# Altium footprint library uMote.PcbLib: 22 footprints (part 1 of 2)
Each footprint in its own frame and in the unit in brackets; x right, y up, seen from the top. Pads: shape width x height; smd on the part's side, far side on the other; paste and mask are expansions set on the pad; w line width, h text height; cw(c..) or ccw(c..) is an arc to the next point about the centre after c.
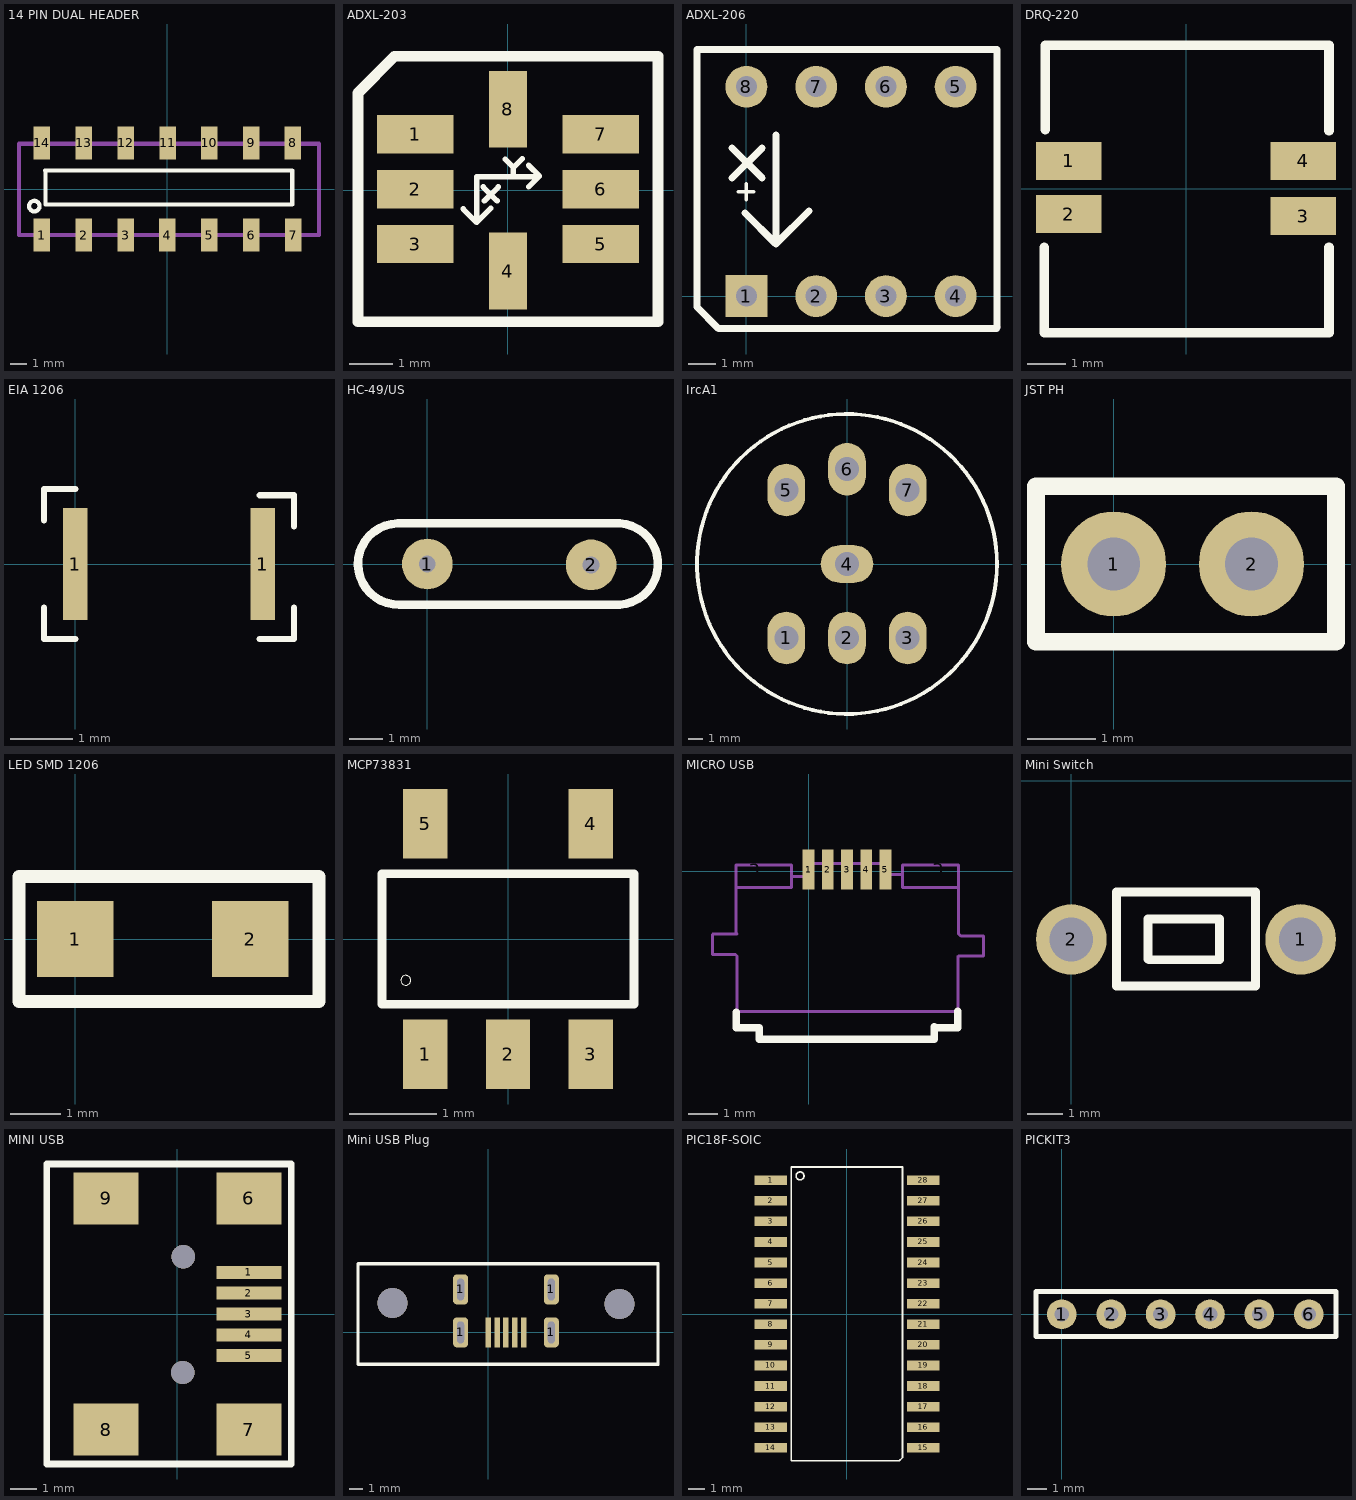
[diagram p0: the footprints below, top view; thin cyan lines are the x and y axes]

## 14 PIN DUAL HEADER [mm]
pads (14):
  rect 1x2 smd: 1(-7.62,-2.788) 2(-5.08,-2.788) 3(-2.54,-2.788) 4(0,-2.788) 5(2.54,-2.788) 6(5.08,-2.788) 7(7.62,-2.788) 8(7.595,2.788) 9(5.08,2.788) 10(2.545,2.788) 11(0.005,2.788) 12(-2.535,2.788) 13(-5.075,2.788) 14(-7.615,2.788)
Top Overlay:
  circle w0.254: c-8.065,-1.038 r0.32
  lines w0.254: -7.42,1.112 7.555,1.112 7.555,-0.938 -7.395,-0.938 -7.395,1.112
Mechanical 1:
  lines w0.254: -8.995,-2.788 9.18,-2.788 9.18,2.737 -8.995,2.737 -8.995,-2.788
3D body: height 2, standoff 1, extent -8.995,-2.788 9.03,2.737

## ADXL-203 [mil]
pads (8):
  rect 70x35 smd: 1(-84.65,50.79) 2(-84.65,0.79) 3(-84.65,-49.21) 5(84.65,-49.21) 6(84.65,0.79) 7(84.65,50.79)
  rect 35x70 smd: 4(0,-73.82) 8(0,73.82)
Top Overlay:
  lines w5: -40.85,-17.22 -28.54,-29.53 ; -22.64,2.95 -9.84,-9.84 ; -21.65,-9.84 -8.86,2.95 ; -15.75,-16.73 -28.54,-29.53 ; -2.46,28.05 4.92,20.67 ; 4.92,13.78 4.92,20.67 ; 12.8,28.54 4.92,20.67 ; 18.7,2.95 28.54,12.8 18.7,22.64 ; 28.05,12.3 -28.54,12.3 -28.54,-29.53
  lines w10: -136.81,-120.08 136.81,-120.08 136.81,122.05 -103.35,122.05 -136.81,88.58 -136.81,-120.08

## ADXL-206 [mil]
pads (8):
  rect 60x60 hole 30: 1(0,0)
  round 60 hole 30: 2(100,0) 3(200,0) 4(300,0) 5(300,300.2) 6(200,300.2) 7(100,300.2) 8(0,300.2)
Top Overlay:
  lines w5: -11.81,149.61 10.83,149.61 ; 0,137.8 0,161.42
  lines w10: -20.67,169.29 22.64,212.6 ; -20.67,212.6 22.64,169.29 ; -1.97,119.09 41.34,75.79 ; 42.32,74.8 42.32,231.3 ; 43.31,75.79 89.57,122.05 ; 358.27,-46.26 -40.35,-46.26 -70.87,-15.75 -70.87,353.35 359.25,353.35 359.25,-45.28
Mechanical 1:
  lines w10: 358.27,-46.26 359.25,-45.28

## DRQ-220 [mm]
pads (4):
  rect 1.73x1 smd: 1(-3.085,0.725) 2(-3.085,-0.675) 3(3.085,-0.725) 4(3.085,0.725)
Top Overlay:
  lines w0.254: -3.735,-1.55 -3.735,-3.8 3.765,-3.8 3.765,-1.55 ; -3.71,1.55 -3.71,3.775 3.765,3.775 3.765,1.525
3D body: height 1, standoff 0, extent -3.51,-3.65 3.54,3.575
3D body: height 4.45, standoff 1, extent -2.878,-2.93 2.908,2.855

## EIA 1206 [mm]
pads (2):
  rect 0.4x1.8 smd: 1(0,0) 1(3,0)
Top Overlay:
  lines w0.1: -0.5,-0.7 -0.5,-1.2 0,-1.2 ; -0.5,0.7 -0.5,1.2 0,1.2 ; 2.95,-1.2 3.5,-1.2 3.5,-0.7 ; 2.95,1.1 3.5,1.1 3.5,0.6

## HC-49/US [mm]
pads (2):
  round 1.5 hole 0.5: 1(0,0) 2(4.85,-0.025)
Top Overlay:
  lines w0.254: -0.875,1.2 ccw(c-0.85,0) -0.825,-1.2 5.7,-1.2 ccw(c5.625,0) 5.7,1.2 -0.875,1.2

## IrcA1 [mil]
pads (7):
  oval 99.37x138.74 hole 62.99: 1(-160,-195) 2(0,-195) 3(160,-195) 5(-160,195) 6(0,250) 7(160,195)
  oval 138.74x99.37 hole 62.99: 4(0,0)
Top Overlay:
  circle w10: c0,0 r395.51

## JST PH [mil]
pads (2):
  round 60 hole 30: 1(0,0) 2(78.74,0)
Top Overlay:
  lines w10: 126.97,44.29 126.97,-44.29 -44.29,-44.29 -44.29,44.29 126.97,44.29 ; 126.97,44.29 126.97,44.29

## LED SMD 1206 [mil]
pads (2):
  rect 60x60 smd: 1(0,0) 2(137.8,0)
Top Overlay:
  lines w10: -44.29,-49.21 -44.29,49.21 191.93,49.21 191.93,-49.21 -44.29,-49.21

## MCP73831 [mm]
pads (5):
  rect 0.51x0.8 smd: 1(-0.95,-1.325) 2(0,-1.325) 3(0.95,-1.325) 4(0.95,1.325) 5(-0.95,1.325)
Top Overlay:
  circle w0.01: c-1.175,-0.475 r0.056
  lines w0.1: -1.45,-0.75 1.45,-0.75 1.45,0.75 -1.45,0.75 -1.45,-0.75

## MICRO USB [mm]
pads (11):
  rect 0.4x1.35 smd: 1(0,0.048) 2(0.65,0.048) 3(1.3,0.048) 4(1.95,0.048) 5(2.6,0.048)
  rect 2.1x1.6 on Top Paste: 3(-1.8,0.025) 3(4.4,0.05)
  rect 1.8x1.9 on Top Paste: ""(-2.825,-2.35) ""(0.15,-2.35) ""(2.45,-2.35) ""(5.425,-2.4)
Top Overlay:
  lines w0.254: -2.45,-4.775 -2.45,-5.3 -1.675,-5.3 -1.675,-5.7 4.25,-5.7 4.25,-5.275 4.275,-5.3 5.05,-5.3 5.05,-4.75
Mechanical 1:
  lines w0.1: -2.45,-0.55 -0.575,-0.55 -0.575,0.2 -2.45,0.2 -2.45,-2.1 -2.425,-2.125 -3.225,-2.125 -3.25,-2.15 -3.25,-2.825 -2.475,-2.825 -2.425,-2.875 -2.425,-4.75 5.05,-4.75 5.05,-2.9 5.075,-2.875 5.925,-2.875 5.925,-2.2 5.15,-2.2 5.075,-2.125 5.075,-0.55 ; -0.55,-0.188 -0.038,-0.188 -0.025,-0.175 -0.025,0.25 2.6,0.25 2.6,-0.125 3.175,-0.125 ; 3.175,-0.125 3.175,0.2 5.075,0.2 5.075,-0.55 ; 3.175,-0.125 3.175,-0.55 5.075,-0.55
3D body: height 1, standoff 0, extent -3.25,-5.7 5.925,0.2

## Mini Switch [mm]
pads (2):
  round 2 hole 1.24: 1(6.5,-4.5) 2(0,-4.5)
Top Overlay:
  lines w0.254: 1.275,-5.825 1.275,-3.15 5.225,-3.15 5.225,-5.825 1.275,-5.825 ; 2.175,-5.05 2.2,-5.075 4.2,-5.075 4.2,-3.925 2.175,-3.925 2.175,-5.05
3D body: height 2, standoff 1, extent 1.275,-5.8 5.225,-3.175
3D body: height 2, standoff 1, extent 2.2,-5.025 4.2,-3.925

## MINI USB [mm]
pads (9):
  rect 2.5x0.5 smd: 1(2.75,1.6) 2(2.75,0.8) 3(2.75,0) 4(2.75,-0.8) 5(2.75,-1.6)
  rect 2.5x2 smd: 6(2.75,4.45) 7(2.75,-4.45) 8(-2.75,-4.45) 9(-2.75,4.45)
via 0.225,2.2 diameter 0.9 hole 0.9
via 0.2,-2.25 diameter 0.9 hole 0.9
Top Overlay:
  lines w0.254: -5.025,-5.775 -5.025,5.775 4.375,5.775 4.375,-5.775 3.525,-5.775 -5.025,-5.775

## Mini USB Plug [mm]
pads (9):
  rect 0.4x2.2 smd: 0(0,0) 1(0.65,0) 2(1.3,0) 3(1.95,0) 4(2.6,0)
  rrect50% 1.1x2.2 hole 0.5 slot 1.6 at 90 deg: 1(-2.025,0) 1(-2.025,3.15) 1(4.625,0) 1(4.625,3.15)
via -7.025,2.15 diameter 2.2 hole 2.2
via 9.625,2.075 diameter 2.2 hole 2.2
Top Overlay:
  lines w0.254: -9.55,-2.3 -9.5,-2.35 12.425,-2.35 12.45,-2.325 12.45,5.025 12.425,5.05 -9.55,5.05 -9.55,-2.3

## PIC18F-SOIC [mm]
pads (28):
  rect 2x0.6 smd: 1(-4.7,8.255) 2(-4.7,6.985) 3(-4.7,5.715) 4(-4.7,4.445) 5(-4.7,3.175) 6(-4.7,1.905) 7(-4.7,0.635) 8(-4.7,-0.635) 9(-4.7,-1.905) 10(-4.7,-3.175) 11(-4.7,-4.445) 12(-4.7,-5.715) 13(-4.7,-6.985) 14(-4.7,-8.255) 15(4.7,-8.255) 16(4.7,-6.985) 17(4.7,-5.715) 18(4.7,-4.445) 19(4.7,-3.175) 20(4.7,-1.905) 21(4.7,-0.635) 22(4.7,0.635) 23(4.7,1.905) 24(4.7,3.175) 25(4.7,4.445) 26(4.7,5.715) 27(4.7,6.985) 28(4.7,8.255)
Top Overlay:
  circle w0.1: c-2.896,8.52 r0.246
  lines w0.1: -3.45,-9.055 3.225,-9.055 3.425,-8.855 3.425,-8.48 3.425,-2.867 3.425,2.108 3.425,9.07 -3.45,9.07 -3.45,-9.055

## PICKIT3 [mil]
pads (6):
  round 60 hole 30: 1(0,0) 2(100,0) 3(200,0) 4(300,0) 5(400,0) 6(500,0)
Top Overlay:
  lines w10: -52.17,-45.28 555.12,-45.28 555.12,46.26 -52.17,46.26 -52.17,-45.28